# Altium footprint library IPC-SM-782 Section 11.2 SQFP_QFP-Square.PcbLib: 78 footprints (part 2 of 7)
Each footprint in its own frame and in the unit in brackets; x right, y up, seen from the top. Pads: shape width x height; smd on the part's side, far side on the other; paste and mask are expansions set on the pad; w line width, h text height; cw(c..) or ccw(c..) is an arc to the next point about the centre after c.
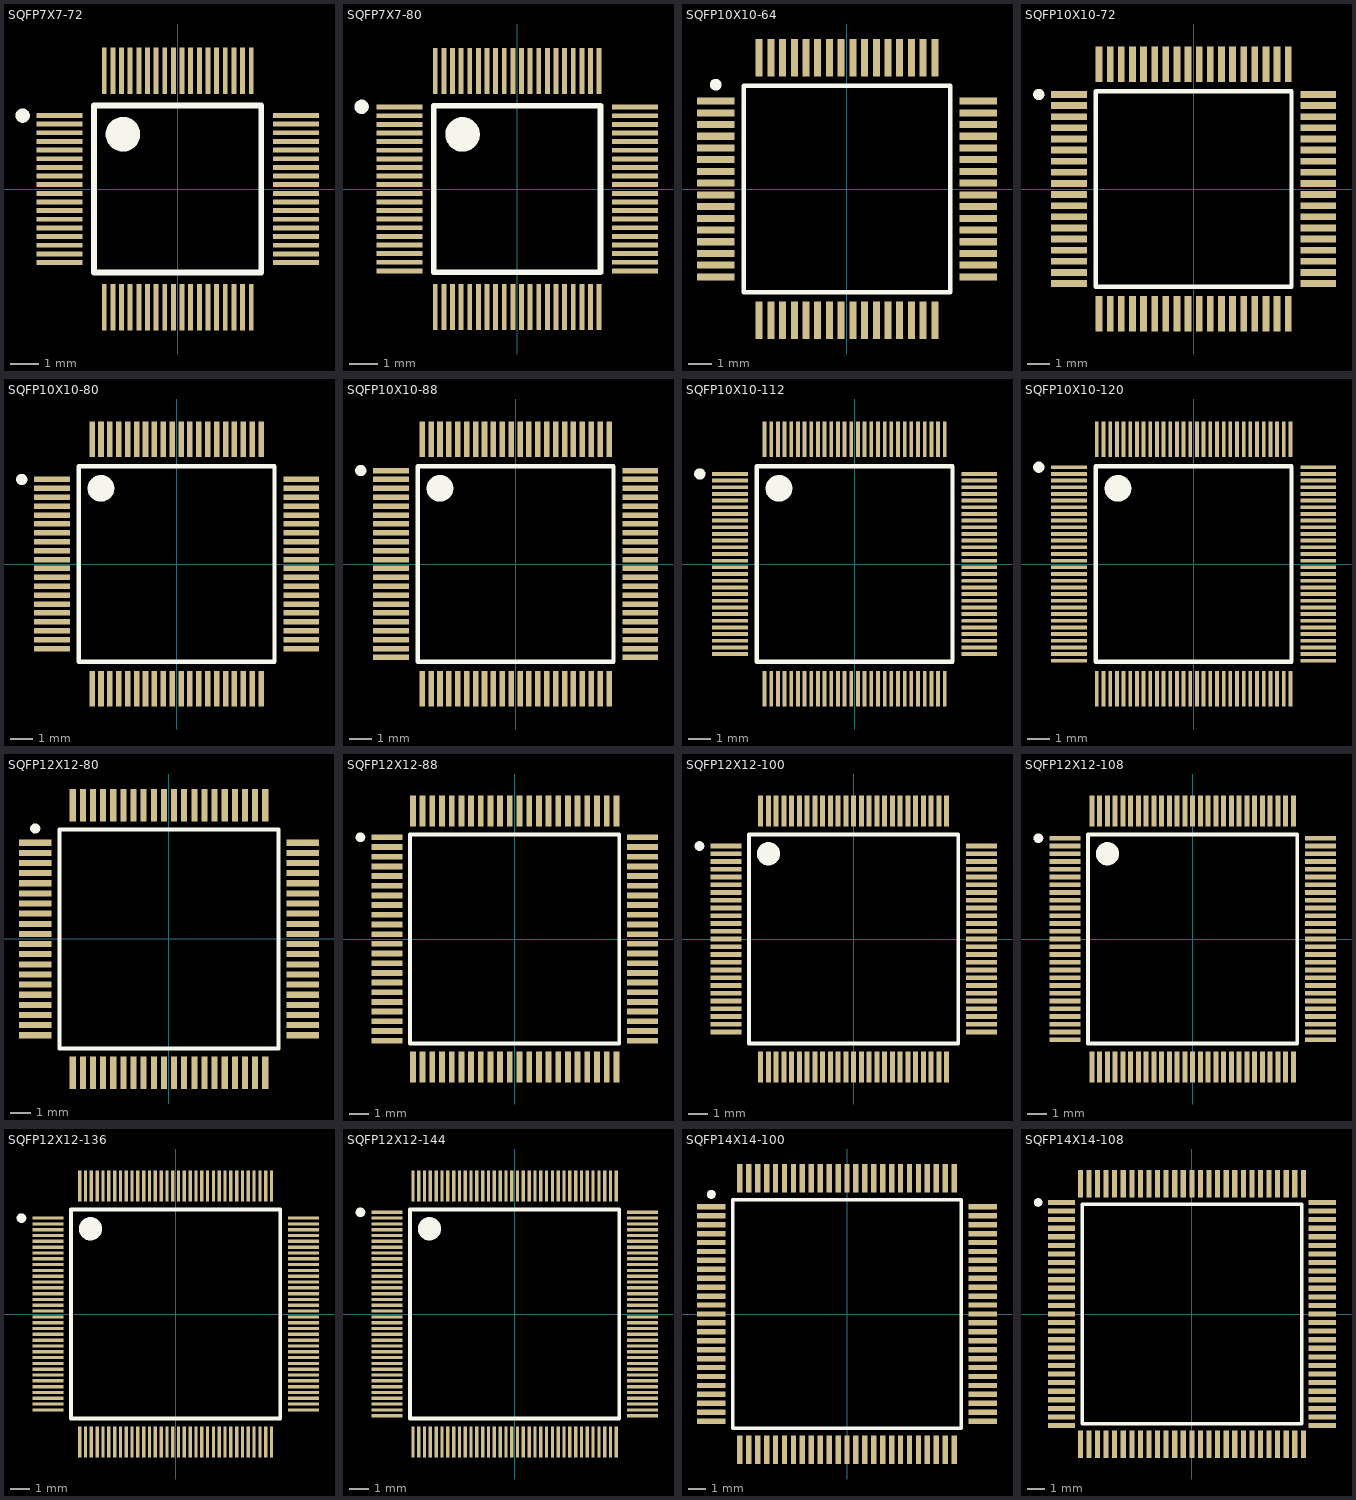
[diagram p1: the footprints below, top view; thin cyan lines are the x and y axes]

## SQFP7X7-72 [mm] "QFP; 72 Leads; Body 7 x 7 mm; Pitch 0.3 mm"
height 1.7
pads (72):
  rect 1.6x0.17 smd: 1(-4.1,2.55) 2(-4.1,2.25) 3(-4.1,1.95) 4(-4.1,1.65) 5(-4.1,1.35) 6(-4.1,1.05) 7(-4.1,0.75) 8(-4.1,0.45) 9(-4.1,0.15) 10(-4.1,-0.15) 11(-4.1,-0.45) 12(-4.1,-0.75) 13(-4.1,-1.05) 14(-4.1,-1.35) 15(-4.1,-1.65) 16(-4.1,-1.95) 17(-4.1,-2.25) 18(-4.1,-2.55) 37(4.1,-2.55) 38(4.1,-2.25) 39(4.1,-1.95) 40(4.1,-1.65) 41(4.1,-1.35) 42(4.1,-1.05) 43(4.1,-0.75) 44(4.1,-0.45) 45(4.1,-0.15) 46(4.1,0.15) 47(4.1,0.45) 48(4.1,0.75) 49(4.1,1.05) 50(4.1,1.35) 51(4.1,1.65) 52(4.1,1.95) 53(4.1,2.25) 54(4.1,2.55)
  rect 0.17x1.6 smd: 19(-2.55,-4.1) 20(-2.25,-4.1) 21(-1.95,-4.1) 22(-1.65,-4.1) 23(-1.35,-4.1) 24(-1.05,-4.1) 25(-0.75,-4.1) 26(-0.45,-4.1) 27(-0.15,-4.1) 28(0.15,-4.1) 29(0.45,-4.1) 30(0.75,-4.1) 31(1.05,-4.1) 32(1.35,-4.1) 33(1.65,-4.1) 34(1.95,-4.1) 35(2.25,-4.1) 36(2.55,-4.1) 55(2.55,4.1) 56(2.25,4.1) 57(1.95,4.1) 58(1.65,4.1) 59(1.35,4.1) 60(1.05,4.1) 61(0.75,4.1) 62(0.45,4.1) 63(0.15,4.1) 64(-0.15,4.1) 65(-0.45,4.1) 66(-0.75,4.1) 67(-1.05,4.1) 68(-1.35,4.1) 69(-1.65,4.1) 70(-1.95,4.1) 71(-2.25,4.1) 72(-2.55,4.1)
Top Overlay:
  circle w0.25: c-5.38,2.545 r0.125
  circle w0.6: c-1.9,1.9 r0.3
  lines w0.2: -2.9,-2.9 2.9,-2.9 2.9,2.9 -2.9,2.9 -2.9,-2.9

## SQFP7X7-80 [mm] "QFP; 80 Leads; Body 7 x 7 mm; Pitch 0.3 mm"
height 1.7
pads (80):
  rect 1.6x0.17 smd: 1(-4.1,2.85) 2(-4.1,2.55) 3(-4.1,2.25) 4(-4.1,1.95) 5(-4.1,1.65) 6(-4.1,1.35) 7(-4.1,1.05) 8(-4.1,0.75) 9(-4.1,0.45) 10(-4.1,0.15) 11(-4.1,-0.15) 12(-4.1,-0.45) 13(-4.1,-0.75) 14(-4.1,-1.05) 15(-4.1,-1.35) 16(-4.1,-1.65) 17(-4.1,-1.95) 18(-4.1,-2.25) 19(-4.1,-2.55) 20(-4.1,-2.85) 41(4.1,-2.85) 42(4.1,-2.55) 43(4.1,-2.25) 44(4.1,-1.95) 45(4.1,-1.65) 46(4.1,-1.35) 47(4.1,-1.05) 48(4.1,-0.75) 49(4.1,-0.45) 50(4.1,-0.15) 51(4.1,0.15) 52(4.1,0.45) 53(4.1,0.75) 54(4.1,1.05) 55(4.1,1.35) 56(4.1,1.65) 57(4.1,1.95) 58(4.1,2.25) 59(4.1,2.55) 60(4.1,2.85)
  rect 0.17x1.6 smd: 21(-2.85,-4.1) 22(-2.55,-4.1) 23(-2.25,-4.1) 24(-1.95,-4.1) 25(-1.65,-4.1) 26(-1.35,-4.1) 27(-1.05,-4.1) 28(-0.75,-4.1) 29(-0.45,-4.1) 30(-0.15,-4.1) 31(0.15,-4.1) 32(0.45,-4.1) 33(0.75,-4.1) 34(1.05,-4.1) 35(1.35,-4.1) 36(1.65,-4.1) 37(1.95,-4.1) 38(2.25,-4.1) 39(2.55,-4.1) 40(2.85,-4.1) 61(2.85,4.1) 62(2.55,4.1) 63(2.25,4.1) 64(1.95,4.1) 65(1.65,4.1) 66(1.35,4.1) 67(1.05,4.1) 68(0.75,4.1) 69(0.45,4.1) 70(0.15,4.1) 71(-0.15,4.1) 72(-0.45,4.1) 73(-0.75,4.1) 74(-1.05,4.1) 75(-1.35,4.1) 76(-1.65,4.1) 77(-1.95,4.1) 78(-2.25,4.1) 79(-2.55,4.1) 80(-2.85,4.1)
Top Overlay:
  circle w0.25: c-5.413,2.859 r0.125
  circle w0.6: c-1.9,1.9 r0.3
  lines w0.2: -2.9,-2.9 2.9,-2.9 2.9,2.9 -2.9,2.9 -2.9,-2.9

## SQFP10X10-64 [mm] "QFP; 64 Leads; Body 10 x 10 mm; Pitch 0.5 mm"
height 2.2
pads (64):
  rect 1.6x0.3 smd: 1(-5.6,3.75) 2(-5.6,3.25) 3(-5.6,2.75) 4(-5.6,2.25) 5(-5.6,1.75) 6(-5.6,1.25) 7(-5.6,0.75) 8(-5.6,0.25) 9(-5.6,-0.25) 10(-5.6,-0.75) 11(-5.6,-1.25) 12(-5.6,-1.75) 13(-5.6,-2.25) 14(-5.6,-2.75) 15(-5.6,-3.25) 16(-5.6,-3.75) 33(5.6,-3.75) 34(5.6,-3.25) 35(5.6,-2.75) 36(5.6,-2.25) 37(5.6,-1.75) 38(5.6,-1.25) 39(5.6,-0.75) 40(5.6,-0.25) 41(5.6,0.25) 42(5.6,0.75) 43(5.6,1.25) 44(5.6,1.75) 45(5.6,2.25) 46(5.6,2.75) 47(5.6,3.25) 48(5.6,3.75)
  rect 0.3x1.6 smd: 17(-3.75,-5.6) 18(-3.25,-5.6) 19(-2.75,-5.6) 20(-2.25,-5.6) 21(-1.75,-5.6) 22(-1.25,-5.6) 23(-0.75,-5.6) 24(-0.25,-5.6) 25(0.25,-5.6) 26(0.75,-5.6) 27(1.25,-5.6) 28(1.75,-5.6) 29(2.25,-5.6) 30(2.75,-5.6) 31(3.25,-5.6) 32(3.75,-5.6) 49(3.75,5.6) 50(3.25,5.6) 51(2.75,5.6) 52(2.25,5.6) 53(1.75,5.6) 54(1.25,5.6) 55(0.75,5.6) 56(0.25,5.6) 57(-0.25,5.6) 58(-0.75,5.6) 59(-1.25,5.6) 60(-1.75,5.6) 61(-2.25,5.6) 62(-2.75,5.6) 63(-3.25,5.6) 64(-3.75,5.6)
Top Overlay:
  circle w0.25: c-5.6,4.45 r0.125
  lines w0.2: -4.4,-4.4 4.4,-4.4 4.4,4.4 -4.4,4.4 -4.4,-4.4

## SQFP10X10-72 [mm] "QFP; 72 Leads; Body 10 x 10 mm; Pitch 0.5 mm"
height 2.2
pads (72):
  rect 1.6x0.3 smd: 1(-5.6,4.25) 2(-5.6,3.75) 3(-5.6,3.25) 4(-5.6,2.75) 5(-5.6,2.25) 6(-5.6,1.75) 7(-5.6,1.25) 8(-5.6,0.75) 9(-5.6,0.25) 10(-5.6,-0.25) 11(-5.6,-0.75) 12(-5.6,-1.25) 13(-5.6,-1.75) 14(-5.6,-2.25) 15(-5.6,-2.75) 16(-5.6,-3.25) 17(-5.6,-3.75) 18(-5.6,-4.25) 37(5.6,-4.25) 38(5.6,-3.75) 39(5.6,-3.25) 40(5.6,-2.75) 41(5.6,-2.25) 42(5.6,-1.75) 43(5.6,-1.25) 44(5.6,-0.75) 45(5.6,-0.25) 46(5.6,0.25) 47(5.6,0.75) 48(5.6,1.25) 49(5.6,1.75) 50(5.6,2.25) 51(5.6,2.75) 52(5.6,3.25) 53(5.6,3.75) 54(5.6,4.25)
  rect 0.3x1.6 smd: 19(-4.25,-5.6) 20(-3.75,-5.6) 21(-3.25,-5.6) 22(-2.75,-5.6) 23(-2.25,-5.6) 24(-1.75,-5.6) 25(-1.25,-5.6) 26(-0.75,-5.6) 27(-0.25,-5.6) 28(0.25,-5.6) 29(0.75,-5.6) 30(1.25,-5.6) 31(1.75,-5.6) 32(2.25,-5.6) 33(2.75,-5.6) 34(3.25,-5.6) 35(3.75,-5.6) 36(4.25,-5.6) 55(4.25,5.6) 56(3.75,5.6) 57(3.25,5.6) 58(2.75,5.6) 59(2.25,5.6) 60(1.75,5.6) 61(1.25,5.6) 62(0.75,5.6) 63(0.25,5.6) 64(-0.25,5.6) 65(-0.75,5.6) 66(-1.25,5.6) 67(-1.75,5.6) 68(-2.25,5.6) 69(-2.75,5.6) 70(-3.25,5.6) 71(-3.75,5.6) 72(-4.25,5.6)
Top Overlay:
  circle w0.25: c-6.96,4.25 r0.125
  lines w0.2: -4.4,-4.4 4.4,-4.4 4.4,4.4 -4.4,4.4 -4.4,-4.4

## SQFP10X10-80 [mm] "QFP; 80 Leads; Body 10 x 10 mm; Pitch 0.4 mm"
height 2.2
pads (80):
  rect 1.6x0.25 smd: 1(-5.6,3.8) 2(-5.6,3.4) 3(-5.6,3) 4(-5.6,2.6) 5(-5.6,2.2) 6(-5.6,1.8) 7(-5.6,1.4) 8(-5.6,1) 9(-5.6,0.6) 10(-5.6,0.2) 11(-5.6,-0.2) 12(-5.6,-0.6) 13(-5.6,-1) 14(-5.6,-1.4) 15(-5.6,-1.8) 16(-5.6,-2.2) 17(-5.6,-2.6) 18(-5.6,-3) 19(-5.6,-3.4) 20(-5.6,-3.8) 41(5.6,-3.8) 42(5.6,-3.4) 43(5.6,-3) 44(5.6,-2.6) 45(5.6,-2.2) 46(5.6,-1.8) 47(5.6,-1.4) 48(5.6,-1) 49(5.6,-0.6) 50(5.6,-0.2) 51(5.6,0.2) 52(5.6,0.6) 53(5.6,1) 54(5.6,1.4) 55(5.6,1.8) 56(5.6,2.2) 57(5.6,2.6) 58(5.6,3) 59(5.6,3.4) 60(5.6,3.8)
  rect 0.25x1.6 smd: 21(-3.8,-5.6) 22(-3.4,-5.6) 23(-3,-5.6) 24(-2.6,-5.6) 25(-2.2,-5.6) 26(-1.8,-5.6) 27(-1.4,-5.6) 28(-1,-5.6) 29(-0.6,-5.6) 30(-0.2,-5.6) 31(0.2,-5.6) 32(0.6,-5.6) 33(1,-5.6) 34(1.4,-5.6) 35(1.8,-5.6) 36(2.2,-5.6) 37(2.6,-5.6) 38(3,-5.6) 39(3.4,-5.6) 40(3.8,-5.6) 61(3.8,5.6) 62(3.4,5.6) 63(3,5.6) 64(2.6,5.6) 65(2.2,5.6) 66(1.8,5.6) 67(1.4,5.6) 68(1,5.6) 69(0.6,5.6) 70(0.2,5.6) 71(-0.2,5.6) 72(-0.6,5.6) 73(-1,5.6) 74(-1.4,5.6) 75(-1.8,5.6) 76(-2.2,5.6) 77(-2.6,5.6) 78(-3,5.6) 79(-3.4,5.6) 80(-3.8,5.6)
Top Overlay:
  circle w0.6: c-3.4,3.4 r0.3
  circle w0.25: c-6.96,3.8 r0.125
  lines w0.2: -4.4,-4.4 4.4,-4.4 4.4,4.4 -4.4,4.4 -4.4,-4.4

## SQFP10X10-88 [mm] "QFP; 88 Leads; Body 10 x 10 mm; Pitch 0.4 mm"
height 2.2
pads (88):
  rect 1.6x0.25 smd: 1(-5.6,4.2) 2(-5.6,3.8) 3(-5.6,3.4) 4(-5.6,3) 5(-5.6,2.6) 6(-5.6,2.2) 7(-5.6,1.8) 8(-5.6,1.4) 9(-5.6,1) 10(-5.6,0.6) 11(-5.6,0.2) 12(-5.6,-0.2) 13(-5.6,-0.6) 14(-5.6,-1) 15(-5.6,-1.4) 16(-5.6,-1.8) 17(-5.6,-2.2) 18(-5.6,-2.6) 19(-5.6,-3) 20(-5.6,-3.4) 21(-5.6,-3.8) 22(-5.6,-4.2) 45(5.6,-4.2) 46(5.6,-3.8) 47(5.6,-3.4) 48(5.6,-3) 49(5.6,-2.6) 50(5.6,-2.2) 51(5.6,-1.8) 52(5.6,-1.4) 53(5.6,-1) 54(5.6,-0.6) 55(5.6,-0.2) 56(5.6,0.2) 57(5.6,0.6) 58(5.6,1) 59(5.6,1.4) 60(5.6,1.8) 61(5.6,2.2) 62(5.6,2.6) 63(5.6,3) 64(5.6,3.4) 65(5.6,3.8) 66(5.6,4.2)
  rect 0.25x1.6 smd: 23(-4.2,-5.6) 24(-3.8,-5.6) 25(-3.4,-5.6) 26(-3,-5.6) 27(-2.6,-5.6) 28(-2.2,-5.6) 29(-1.8,-5.6) 30(-1.4,-5.6) 31(-1,-5.6) 32(-0.6,-5.6) 33(-0.2,-5.6) 34(0.2,-5.6) 35(0.6,-5.6) 36(1,-5.6) 37(1.4,-5.6) 38(1.8,-5.6) 39(2.2,-5.6) 40(2.6,-5.6) 41(3,-5.6) 42(3.4,-5.6) 43(3.8,-5.6) 44(4.2,-5.6) 67(4.2,5.6) 68(3.8,5.6) 69(3.4,5.6) 70(3,5.6) 71(2.6,5.6) 72(2.2,5.6) 73(1.8,5.6) 74(1.4,5.6) 75(1,5.6) 76(0.6,5.6) 77(0.2,5.6) 78(-0.2,5.6) 79(-0.6,5.6) 80(-1,5.6) 81(-1.4,5.6) 82(-1.8,5.6) 83(-2.2,5.6) 84(-2.6,5.6) 85(-3,5.6) 86(-3.4,5.6) 87(-3.8,5.6) 88(-4.2,5.6)
Top Overlay:
  circle w0.6: c-3.4,3.4 r0.3
  circle w0.25: c-6.96,4.2 r0.125
  lines w0.2: -4.4,-4.4 4.4,-4.4 4.4,4.4 -4.4,4.4 -4.4,-4.4

## SQFP10X10-112 [mm] "QFP; 112 Leads; Body 10 x 10 mm; Pitch 0.3 mm"
height 2.2
pads (112):
  rect 1.6x0.17 smd: 1(-5.6,4.05) 2(-5.6,3.75) 3(-5.6,3.45) 4(-5.6,3.15) 5(-5.6,2.85) 6(-5.6,2.55) 7(-5.6,2.25) 8(-5.6,1.95) 9(-5.6,1.65) 10(-5.6,1.35) 11(-5.6,1.05) 12(-5.6,0.75) 13(-5.6,0.45) 14(-5.6,0.15) 15(-5.6,-0.15) 16(-5.6,-0.45) 17(-5.6,-0.75) 18(-5.6,-1.05) 19(-5.6,-1.35) 20(-5.6,-1.65) 21(-5.6,-1.95) 22(-5.6,-2.25) 23(-5.6,-2.55) 24(-5.6,-2.85) 25(-5.6,-3.15) 26(-5.6,-3.45) 27(-5.6,-3.75) 28(-5.6,-4.05) 57(5.6,-4.05) 58(5.6,-3.75) 59(5.6,-3.45) 60(5.6,-3.15) 61(5.6,-2.85) 62(5.6,-2.55) 63(5.6,-2.25) 64(5.6,-1.95) 65(5.6,-1.65) 66(5.6,-1.35) 67(5.6,-1.05) 68(5.6,-0.75) 69(5.6,-0.45) 70(5.6,-0.15) 71(5.6,0.15) 72(5.6,0.45) 73(5.6,0.75) 74(5.6,1.05) 75(5.6,1.35) 76(5.6,1.65) 77(5.6,1.95) 78(5.6,2.25) 79(5.6,2.55) 80(5.6,2.85) 81(5.6,3.15) 82(5.6,3.45) 83(5.6,3.75) 84(5.6,4.05)
  rect 0.17x1.6 smd: 29(-4.05,-5.6) 30(-3.75,-5.6) 31(-3.45,-5.6) 32(-3.15,-5.6) 33(-2.85,-5.6) 34(-2.55,-5.6) 35(-2.25,-5.6) 36(-1.95,-5.6) 37(-1.65,-5.6) 38(-1.35,-5.6) 39(-1.05,-5.6) 40(-0.75,-5.6) 41(-0.45,-5.6) 42(-0.15,-5.6) 43(0.15,-5.6) 44(0.45,-5.6) 45(0.75,-5.6) 46(1.05,-5.6) 47(1.35,-5.6) 48(1.65,-5.6) 49(1.95,-5.6) 50(2.25,-5.6) 51(2.55,-5.6) 52(2.85,-5.6) 53(3.15,-5.6) 54(3.45,-5.6) 55(3.75,-5.6) 56(4.05,-5.6) 85(4.05,5.6) 86(3.75,5.6) 87(3.45,5.6) 88(3.15,5.6) 89(2.85,5.6) 90(2.55,5.6) 91(2.25,5.6) 92(1.95,5.6) 93(1.65,5.6) 94(1.35,5.6) 95(1.05,5.6) 96(0.75,5.6) 97(0.45,5.6) 98(0.15,5.6) 99(-0.15,5.6) 100(-0.45,5.6) 101(-0.75,5.6) 102(-1.05,5.6) 103(-1.35,5.6) 104(-1.65,5.6) 105(-1.95,5.6) 106(-2.25,5.6) 107(-2.55,5.6) 108(-2.85,5.6) 109(-3.15,5.6) 110(-3.45,5.6) 111(-3.75,5.6) 112(-4.05,5.6)
Top Overlay:
  circle w0.25: c-6.96,4.05 r0.125
  circle w0.6: c-3.4,3.4 r0.3
  lines w0.2: -4.4,-4.4 4.4,-4.4 4.4,4.4 -4.4,4.4 -4.4,-4.4

## SQFP10X10-120 [mm] "QFP; 120 Leads; Body 10 x 10 mm; Pitch 0.3 mm"
height 2.2
pads (120):
  rect 1.6x0.17 smd: 1(-5.6,4.35) 2(-5.6,4.05) 3(-5.6,3.75) 4(-5.6,3.45) 5(-5.6,3.15) 6(-5.6,2.85) 7(-5.6,2.55) 8(-5.6,2.25) 9(-5.6,1.95) 10(-5.6,1.65) 11(-5.6,1.35) 12(-5.6,1.05) 13(-5.6,0.75) 14(-5.6,0.45) 15(-5.6,0.15) 16(-5.6,-0.15) 17(-5.6,-0.45) 18(-5.6,-0.75) 19(-5.6,-1.05) 20(-5.6,-1.35) 21(-5.6,-1.65) 22(-5.6,-1.95) 23(-5.6,-2.25) 24(-5.6,-2.55) 25(-5.6,-2.85) 26(-5.6,-3.15) 27(-5.6,-3.45) 28(-5.6,-3.75) 29(-5.6,-4.05) 30(-5.6,-4.35) 61(5.6,-4.35) 62(5.6,-4.05) 63(5.6,-3.75) 64(5.6,-3.45) 65(5.6,-3.15) 66(5.6,-2.85) 67(5.6,-2.55) 68(5.6,-2.25) 69(5.6,-1.95) 70(5.6,-1.65) 71(5.6,-1.35) 72(5.6,-1.05) 73(5.6,-0.75) 74(5.6,-0.45) 75(5.6,-0.15) 76(5.6,0.15) 77(5.6,0.45) 78(5.6,0.75) 79(5.6,1.05) 80(5.6,1.35) 81(5.6,1.65) 82(5.6,1.95) 83(5.6,2.25) 84(5.6,2.55) 85(5.6,2.85) 86(5.6,3.15) 87(5.6,3.45) 88(5.6,3.75) 89(5.6,4.05) 90(5.6,4.35)
  rect 0.17x1.6 smd: 31(-4.35,-5.6) 32(-4.05,-5.6) 33(-3.75,-5.6) 34(-3.45,-5.6) 35(-3.15,-5.6) 36(-2.85,-5.6) 37(-2.55,-5.6) 38(-2.25,-5.6) 39(-1.95,-5.6) 40(-1.65,-5.6) 41(-1.35,-5.6) 42(-1.05,-5.6) 43(-0.75,-5.6) 44(-0.45,-5.6) 45(-0.15,-5.6) 46(0.15,-5.6) 47(0.45,-5.6) 48(0.75,-5.6) 49(1.05,-5.6) 50(1.35,-5.6) 51(1.65,-5.6) 52(1.95,-5.6) 53(2.25,-5.6) 54(2.55,-5.6) 55(2.85,-5.6) 56(3.15,-5.6) 57(3.45,-5.6) 58(3.75,-5.6) 59(4.05,-5.6) 60(4.35,-5.6) 91(4.35,5.6) 92(4.05,5.6) 93(3.75,5.6) 94(3.45,5.6) 95(3.15,5.6) 96(2.85,5.6) 97(2.55,5.6) 98(2.25,5.6) 99(1.95,5.6) 100(1.65,5.6) 101(1.35,5.6) 102(1.05,5.6) 103(0.75,5.6) 104(0.45,5.6) 105(0.15,5.6) 106(-0.15,5.6) 107(-0.45,5.6) 108(-0.75,5.6) 109(-1.05,5.6) 110(-1.35,5.6) 111(-1.65,5.6) 112(-1.95,5.6) 113(-2.25,5.6) 114(-2.55,5.6) 115(-2.85,5.6) 116(-3.15,5.6) 117(-3.45,5.6) 118(-3.75,5.6) 119(-4.05,5.6) 120(-4.35,5.6)
Top Overlay:
  circle w0.25: c-6.96,4.35 r0.125
  circle w0.6: c-3.4,3.4 r0.3
  lines w0.2: -4.4,-4.4 4.4,-4.4 4.4,4.4 -4.4,4.4 -4.4,-4.4

## SQFP12X12-80 [mm] "QFP; 80 Leads; Body 12 x 12 mm; Pitch 0.5 mm"
height 2.2
pads (80):
  rect 1.6x0.3 smd: 1(-6.6,4.75) 2(-6.6,4.25) 3(-6.6,3.75) 4(-6.6,3.25) 5(-6.6,2.75) 6(-6.6,2.25) 7(-6.6,1.75) 8(-6.6,1.25) 9(-6.6,0.75) 10(-6.6,0.25) 11(-6.6,-0.25) 12(-6.6,-0.75) 13(-6.6,-1.25) 14(-6.6,-1.75) 15(-6.6,-2.25) 16(-6.6,-2.75) 17(-6.6,-3.25) 18(-6.6,-3.75) 19(-6.6,-4.25) 20(-6.6,-4.75) 41(6.6,-4.75) 42(6.6,-4.25) 43(6.6,-3.75) 44(6.6,-3.25) 45(6.6,-2.75) 46(6.6,-2.25) 47(6.6,-1.75) 48(6.6,-1.25) 49(6.6,-0.75) 50(6.6,-0.25) 51(6.6,0.25) 52(6.6,0.75) 53(6.6,1.25) 54(6.6,1.75) 55(6.6,2.25) 56(6.6,2.75) 57(6.6,3.25) 58(6.6,3.75) 59(6.6,4.25) 60(6.6,4.75)
  rect 0.3x1.6 smd: 21(-4.75,-6.6) 22(-4.25,-6.6) 23(-3.75,-6.6) 24(-3.25,-6.6) 25(-2.75,-6.6) 26(-2.25,-6.6) 27(-1.75,-6.6) 28(-1.25,-6.6) 29(-0.75,-6.6) 30(-0.25,-6.6) 31(0.25,-6.6) 32(0.75,-6.6) 33(1.25,-6.6) 34(1.75,-6.6) 35(2.25,-6.6) 36(2.75,-6.6) 37(3.25,-6.6) 38(3.75,-6.6) 39(4.25,-6.6) 40(4.75,-6.6) 61(4.75,6.6) 62(4.25,6.6) 63(3.75,6.6) 64(3.25,6.6) 65(2.75,6.6) 66(2.25,6.6) 67(1.75,6.6) 68(1.25,6.6) 69(0.75,6.6) 70(0.25,6.6) 71(-0.25,6.6) 72(-0.75,6.6) 73(-1.25,6.6) 74(-1.75,6.6) 75(-2.25,6.6) 76(-2.75,6.6) 77(-3.25,6.6) 78(-3.75,6.6) 79(-4.25,6.6) 80(-4.75,6.6)
Top Overlay:
  circle w0.25: c-6.6,5.45 r0.125
  lines w0.2: -5.4,-5.4 5.4,-5.4 5.4,5.4 -5.4,5.4 -5.4,-5.4

## SQFP12X12-88 [mm] "QFP; 88 Leads; Body 12 x 12 mm; Pitch 0.5 mm"
height 2.2
pads (88):
  rect 1.6x0.3 smd: 1(-6.6,5.25) 2(-6.6,4.75) 3(-6.6,4.25) 4(-6.6,3.75) 5(-6.6,3.25) 6(-6.6,2.75) 7(-6.6,2.25) 8(-6.6,1.75) 9(-6.6,1.25) 10(-6.6,0.75) 11(-6.6,0.25) 12(-6.6,-0.25) 13(-6.6,-0.75) 14(-6.6,-1.25) 15(-6.6,-1.75) 16(-6.6,-2.25) 17(-6.6,-2.75) 18(-6.6,-3.25) 19(-6.6,-3.75) 20(-6.6,-4.25) 21(-6.6,-4.75) 22(-6.6,-5.25) 45(6.6,-5.25) 46(6.6,-4.75) 47(6.6,-4.25) 48(6.6,-3.75) 49(6.6,-3.25) 50(6.6,-2.75) 51(6.6,-2.25) 52(6.6,-1.75) 53(6.6,-1.25) 54(6.6,-0.75) 55(6.6,-0.25) 56(6.6,0.25) 57(6.6,0.75) 58(6.6,1.25) 59(6.6,1.75) 60(6.6,2.25) 61(6.6,2.75) 62(6.6,3.25) 63(6.6,3.75) 64(6.6,4.25) 65(6.6,4.75) 66(6.6,5.25)
  rect 0.3x1.6 smd: 23(-5.25,-6.6) 24(-4.75,-6.6) 25(-4.25,-6.6) 26(-3.75,-6.6) 27(-3.25,-6.6) 28(-2.75,-6.6) 29(-2.25,-6.6) 30(-1.75,-6.6) 31(-1.25,-6.6) 32(-0.75,-6.6) 33(-0.25,-6.6) 34(0.25,-6.6) 35(0.75,-6.6) 36(1.25,-6.6) 37(1.75,-6.6) 38(2.25,-6.6) 39(2.75,-6.6) 40(3.25,-6.6) 41(3.75,-6.6) 42(4.25,-6.6) 43(4.75,-6.6) 44(5.25,-6.6) 67(5.25,6.6) 68(4.75,6.6) 69(4.25,6.6) 70(3.75,6.6) 71(3.25,6.6) 72(2.75,6.6) 73(2.25,6.6) 74(1.75,6.6) 75(1.25,6.6) 76(0.75,6.6) 77(0.25,6.6) 78(-0.25,6.6) 79(-0.75,6.6) 80(-1.25,6.6) 81(-1.75,6.6) 82(-2.25,6.6) 83(-2.75,6.6) 84(-3.25,6.6) 85(-3.75,6.6) 86(-4.25,6.6) 87(-4.75,6.6) 88(-5.25,6.6)
Top Overlay:
  circle w0.25: c-7.96,5.25 r0.125
  lines w0.2: -5.4,-5.4 -5.4,5.4 5.4,5.4 5.4,-5.4 -5.4,-5.4

## SQFP12X12-100 [mm] "QFP; 100 Leads; Body 12 x 12 mm; Pitch 0.4 mm"
height 2.2
pads (100):
  rect 1.6x0.25 smd: 1(-6.6,4.8) 2(-6.6,4.4) 3(-6.6,4) 4(-6.6,3.6) 5(-6.6,3.2) 6(-6.6,2.8) 7(-6.6,2.4) 8(-6.6,2) 9(-6.6,1.6) 10(-6.6,1.2) 11(-6.6,0.8) 12(-6.6,0.4) 13(-6.6,0) 14(-6.6,-0.4) 15(-6.6,-0.8) 16(-6.6,-1.2) 17(-6.6,-1.6) 18(-6.6,-2) 19(-6.6,-2.4) 20(-6.6,-2.8) 21(-6.6,-3.2) 22(-6.6,-3.6) 23(-6.6,-4) 24(-6.6,-4.4) 25(-6.6,-4.8) 51(6.6,-4.8) 52(6.6,-4.4) 53(6.6,-4) 54(6.6,-3.6) 55(6.6,-3.2) 56(6.6,-2.8) 57(6.6,-2.4) 58(6.6,-2) 59(6.6,-1.6) 60(6.6,-1.2) 61(6.6,-0.8) 62(6.6,-0.4) 63(6.6,0) 64(6.6,0.4) 65(6.6,0.8) 66(6.6,1.2) 67(6.6,1.6) 68(6.6,2) 69(6.6,2.4) 70(6.6,2.8) 71(6.6,3.2) 72(6.6,3.6) 73(6.6,4) 74(6.6,4.4) 75(6.6,4.8)
  rect 0.25x1.6 smd: 26(-4.8,-6.6) 27(-4.4,-6.6) 28(-4,-6.6) 29(-3.6,-6.6) 30(-3.2,-6.6) 31(-2.8,-6.6) 32(-2.4,-6.6) 33(-2,-6.6) 34(-1.6,-6.6) 35(-1.2,-6.6) 36(-0.8,-6.6) 37(-0.4,-6.6) 38(0,-6.6) 39(0.4,-6.6) 40(0.8,-6.6) 41(1.2,-6.6) 42(1.6,-6.6) 43(2,-6.6) 44(2.4,-6.6) 45(2.8,-6.6) 46(3.2,-6.6) 47(3.6,-6.6) 48(4,-6.6) 49(4.4,-6.6) 50(4.8,-6.6) 76(4.8,6.6) 77(4.4,6.6) 78(4,6.6) 79(3.6,6.6) 80(3.2,6.6) 81(2.8,6.6) 82(2.4,6.6) 83(2,6.6) 84(1.6,6.6) 85(1.2,6.6) 86(0.8,6.6) 87(0.4,6.6) 88(0,6.6) 89(-0.4,6.6) 90(-0.8,6.6) 91(-1.2,6.6) 92(-1.6,6.6) 93(-2,6.6) 94(-2.4,6.6) 95(-2.8,6.6) 96(-3.2,6.6) 97(-3.6,6.6) 98(-4,6.6) 99(-4.4,6.6) 100(-4.8,6.6)
Top Overlay:
  circle w0.6: c-4.4,4.4 r0.3
  circle w0.25: c-7.96,4.8 r0.125
  lines w0.2: -5.4,-5.4 5.4,-5.4 5.4,5.4 -5.4,5.4 -5.4,-5.4

## SQFP12X12-108 [mm] "QFP; 108 Leads; Body 12 x 12 mm; Pitch 0.4 mm"
height 2.2
pads (108):
  rect 1.6x0.25 smd: 1(-6.6,5.2) 2(-6.6,4.8) 3(-6.6,4.4) 4(-6.6,4) 5(-6.6,3.6) 6(-6.6,3.2) 7(-6.6,2.8) 8(-6.6,2.4) 9(-6.6,2) 10(-6.6,1.6) 11(-6.6,1.2) 12(-6.6,0.8) 13(-6.6,0.4) 14(-6.6,0) 15(-6.6,-0.4) 16(-6.6,-0.8) 17(-6.6,-1.2) 18(-6.6,-1.6) 19(-6.6,-2) 20(-6.6,-2.4) 21(-6.6,-2.8) 22(-6.6,-3.2) 23(-6.6,-3.6) 24(-6.6,-4) 25(-6.6,-4.4) 26(-6.6,-4.8) 27(-6.6,-5.2) 55(6.6,-5.2) 56(6.6,-4.8) 57(6.6,-4.4) 58(6.6,-4) 59(6.6,-3.6) 60(6.6,-3.2) 61(6.6,-2.8) 62(6.6,-2.4) 63(6.6,-2) 64(6.6,-1.6) 65(6.6,-1.2) 66(6.6,-0.8) 67(6.6,-0.4) 68(6.6,0) 69(6.6,0.4) 70(6.6,0.8) 71(6.6,1.2) 72(6.6,1.6) 73(6.6,2) 74(6.6,2.4) 75(6.6,2.8) 76(6.6,3.2) 77(6.6,3.6) 78(6.6,4) 79(6.6,4.4) 80(6.6,4.8) 81(6.6,5.2)
  rect 0.25x1.6 smd: 28(-5.2,-6.6) 29(-4.8,-6.6) 30(-4.4,-6.6) 31(-4,-6.6) 32(-3.6,-6.6) 33(-3.2,-6.6) 34(-2.8,-6.6) 35(-2.4,-6.6) 36(-2,-6.6) 37(-1.6,-6.6) 38(-1.2,-6.6) 39(-0.8,-6.6) 40(-0.4,-6.6) 41(0,-6.6) 42(0.4,-6.6) 43(0.8,-6.6) 44(1.2,-6.6) 45(1.6,-6.6) 46(2,-6.6) 47(2.4,-6.6) 48(2.8,-6.6) 49(3.2,-6.6) 50(3.6,-6.6) 51(4,-6.6) 52(4.4,-6.6) 53(4.8,-6.6) 54(5.2,-6.6) 82(5.2,6.6) 83(4.8,6.6) 84(4.4,6.6) 85(4,6.6) 86(3.6,6.6) 87(3.2,6.6) 88(2.8,6.6) 89(2.4,6.6) 90(2,6.6) 91(1.6,6.6) 92(1.2,6.6) 93(0.8,6.6) 94(0.4,6.6) 95(0,6.6) 96(-0.4,6.6) 97(-0.8,6.6) 98(-1.2,6.6) 99(-1.6,6.6) 100(-2,6.6) 101(-2.4,6.6) 102(-2.8,6.6) 103(-3.2,6.6) 104(-3.6,6.6) 105(-4,6.6) 106(-4.4,6.6) 107(-4.8,6.6) 108(-5.2,6.6)
Top Overlay:
  circle w0.6: c-4.4,4.4 r0.3
  circle w0.25: c-7.96,5.2 r0.125
  lines w0.2: -5.4,-5.4 5.4,-5.4 5.4,5.4 -5.4,5.4 -5.4,-5.4

## SQFP12X12-136 [mm] "QFP; 136 Leads; Body 12 x 12 mm; Pitch 0.3 mm"
height 2.2
pads (136):
  rect 1.6x0.17 smd: 1(-6.6,4.95) 2(-6.6,4.65) 3(-6.6,4.35) 4(-6.6,4.05) 5(-6.6,3.75) 6(-6.6,3.45) 7(-6.6,3.15) 8(-6.6,2.85) 9(-6.6,2.55) 10(-6.6,2.25) 11(-6.6,1.95) 12(-6.6,1.65) 13(-6.6,1.35) 14(-6.6,1.05) 15(-6.6,0.75) 16(-6.6,0.45) 17(-6.6,0.15) 18(-6.6,-0.15) 19(-6.6,-0.45) 20(-6.6,-0.75) 21(-6.6,-1.05) 22(-6.6,-1.35) 23(-6.6,-1.65) 24(-6.6,-1.95) 25(-6.6,-2.25) 26(-6.6,-2.55) 27(-6.6,-2.85) 28(-6.6,-3.15) 29(-6.6,-3.45) 30(-6.6,-3.75) 31(-6.6,-4.05) 32(-6.6,-4.35) 33(-6.6,-4.65) 34(-6.6,-4.95) 69(6.6,-4.95) 70(6.6,-4.65) 71(6.6,-4.35) 72(6.6,-4.05) 73(6.6,-3.75) 74(6.6,-3.45) 75(6.6,-3.15) 76(6.6,-2.85) 77(6.6,-2.55) 78(6.6,-2.25) 79(6.6,-1.95) 80(6.6,-1.65) 81(6.6,-1.35) 82(6.6,-1.05) 83(6.6,-0.75) 84(6.6,-0.45) 85(6.6,-0.15) 86(6.6,0.15) 87(6.6,0.45) 88(6.6,0.75) 89(6.6,1.05) 90(6.6,1.35) 91(6.6,1.65) 92(6.6,1.95) 93(6.6,2.25) 94(6.6,2.55) 95(6.6,2.85) 96(6.6,3.15) 97(6.6,3.45) 98(6.6,3.75) 99(6.6,4.05) 100(6.6,4.35) 101(6.6,4.65) 102(6.6,4.95)
  rect 0.17x1.6 smd: 35(-4.95,-6.6) 36(-4.65,-6.6) 37(-4.35,-6.6) 38(-4.05,-6.6) 39(-3.75,-6.6) 40(-3.45,-6.6) 41(-3.15,-6.6) 42(-2.85,-6.6) 43(-2.55,-6.6) 44(-2.25,-6.6) 45(-1.95,-6.6) 46(-1.65,-6.6) 47(-1.35,-6.6) 48(-1.05,-6.6) 49(-0.75,-6.6) 50(-0.45,-6.6) 51(-0.15,-6.6) 52(0.15,-6.6) 53(0.45,-6.6) 54(0.75,-6.6) 55(1.05,-6.6) 56(1.35,-6.6) 57(1.65,-6.6) 58(1.95,-6.6) 59(2.25,-6.6) 60(2.55,-6.6) 61(2.85,-6.6) 62(3.15,-6.6) 63(3.45,-6.6) 64(3.75,-6.6) 65(4.05,-6.6) 66(4.35,-6.6) 67(4.65,-6.6) 68(4.95,-6.6) 103(4.95,6.6) 104(4.65,6.6) 105(4.35,6.6) 106(4.05,6.6) 107(3.75,6.6) 108(3.45,6.6) 109(3.15,6.6) 110(2.85,6.6) 111(2.55,6.6) 112(2.25,6.6) 113(1.95,6.6) 114(1.65,6.6) 115(1.35,6.6) 116(1.05,6.6) 117(0.75,6.6) 118(0.45,6.6) 119(0.15,6.6) 120(-0.15,6.6) 121(-0.45,6.6) 122(-0.75,6.6) 123(-1.05,6.6) 124(-1.35,6.6) 125(-1.65,6.6) 126(-1.95,6.6) 127(-2.25,6.6) 128(-2.55,6.6) 129(-2.85,6.6) 130(-3.15,6.6) 131(-3.45,6.6) 132(-3.75,6.6) 133(-4.05,6.6) 134(-4.35,6.6) 135(-4.65,6.6) 136(-4.95,6.6)
Top Overlay:
  circle w0.25: c-7.96,4.95 r0.125
  circle w0.6: c-4.4,4.4 r0.3
  lines w0.2: -5.4,-5.4 5.4,-5.4 5.4,5.4 -5.4,5.4 -5.4,-5.4

## SQFP12X12-144 [mm] "QFP; 144 Leads; Body 12 x 12 mm; Pitch 0.3 mm"
height 2.2
pads (144):
  rect 1.6x0.17 smd: 1(-6.6,5.25) 2(-6.6,4.95) 3(-6.6,4.65) 4(-6.6,4.35) 5(-6.6,4.05) 6(-6.6,3.75) 7(-6.6,3.45) 8(-6.6,3.15) 9(-6.6,2.85) 10(-6.6,2.55) 11(-6.6,2.25) 12(-6.6,1.95) 13(-6.6,1.65) 14(-6.6,1.35) 15(-6.6,1.05) 16(-6.6,0.75) 17(-6.6,0.45) 18(-6.6,0.15) 19(-6.6,-0.15) 20(-6.6,-0.45) 21(-6.6,-0.75) 22(-6.6,-1.05) 23(-6.6,-1.35) 24(-6.6,-1.65) 25(-6.6,-1.95) 26(-6.6,-2.25) 27(-6.6,-2.55) 28(-6.6,-2.85) 29(-6.6,-3.15) 30(-6.6,-3.45) 31(-6.6,-3.75) 32(-6.6,-4.05) 33(-6.6,-4.35) 34(-6.6,-4.65) 35(-6.6,-4.95) 36(-6.6,-5.25) 73(6.6,-5.25) 74(6.6,-4.95) 75(6.6,-4.65) 76(6.6,-4.35) 77(6.6,-4.05) 78(6.6,-3.75) 79(6.6,-3.45) 80(6.6,-3.15) 81(6.6,-2.85) 82(6.6,-2.55) 83(6.6,-2.25) 84(6.6,-1.95) 85(6.6,-1.65) 86(6.6,-1.35) 87(6.6,-1.05) 88(6.6,-0.75) 89(6.6,-0.45) 90(6.6,-0.15) 91(6.6,0.15) 92(6.6,0.45) 93(6.6,0.75) 94(6.6,1.05) 95(6.6,1.35) 96(6.6,1.65) 97(6.6,1.95) 98(6.6,2.25) 99(6.6,2.55) 100(6.6,2.85) 101(6.6,3.15) 102(6.6,3.45) 103(6.6,3.75) 104(6.6,4.05) 105(6.6,4.35) 106(6.6,4.65) 107(6.6,4.95) 108(6.6,5.25)
  rect 0.17x1.6 smd: 37(-5.25,-6.6) 38(-4.95,-6.6) 39(-4.65,-6.6) 40(-4.35,-6.6) 41(-4.05,-6.6) 42(-3.75,-6.6) 43(-3.45,-6.6) 44(-3.15,-6.6) 45(-2.85,-6.6) 46(-2.55,-6.6) 47(-2.25,-6.6) 48(-1.95,-6.6) 49(-1.65,-6.6) 50(-1.35,-6.6) 51(-1.05,-6.6) 52(-0.75,-6.6) 53(-0.45,-6.6) 54(-0.15,-6.6) 55(0.15,-6.6) 56(0.45,-6.6) 57(0.75,-6.6) 58(1.05,-6.6) 59(1.35,-6.6) 60(1.65,-6.6) 61(1.95,-6.6) 62(2.25,-6.6) 63(2.55,-6.6) 64(2.85,-6.6) 65(3.15,-6.6) 66(3.45,-6.6) 67(3.75,-6.6) 68(4.05,-6.6) 69(4.35,-6.6) 70(4.65,-6.6) 71(4.95,-6.6) 72(5.25,-6.6) 109(5.25,6.6) 110(4.95,6.6) 111(4.65,6.6) 112(4.35,6.6) 113(4.05,6.6) 114(3.75,6.6) 115(3.45,6.6) 116(3.15,6.6) 117(2.85,6.6) 118(2.55,6.6) 119(2.25,6.6) 120(1.95,6.6) 121(1.65,6.6) 122(1.35,6.6) 123(1.05,6.6) 124(0.75,6.6) 125(0.45,6.6) 126(0.15,6.6) 127(-0.15,6.6) 128(-0.45,6.6) 129(-0.75,6.6) 130(-1.05,6.6) 131(-1.35,6.6) 132(-1.65,6.6) 133(-1.95,6.6) 134(-2.25,6.6) 135(-2.55,6.6) 136(-2.85,6.6) 137(-3.15,6.6) 138(-3.45,6.6) 139(-3.75,6.6) 140(-4.05,6.6) 141(-4.35,6.6) 142(-4.65,6.6) 143(-4.95,6.6) 144(-5.25,6.6)
Top Overlay:
  circle w0.25: c-7.96,5.25 r0.125
  circle w0.6: c-4.4,4.4 r0.3
  lines w0.2: -5.4,-5.4 5.4,-5.4 5.4,5.4 -5.4,5.4 -5.4,-5.4

## SQFP14X14-100 [mm] "QFP; 100 Leads; Body 14 x 14 mm; Pitch 0.5 mm"
height 2.2
pads (100):
  rect 1.6x0.3 smd: 1(-7.6,6) 2(-7.6,5.5) 3(-7.6,5) 4(-7.6,4.5) 5(-7.6,4) 6(-7.6,3.5) 7(-7.6,3) 8(-7.6,2.5) 9(-7.6,2) 10(-7.6,1.5) 11(-7.6,1) 12(-7.6,0.5) 13(-7.6,0) 14(-7.6,-0.5) 15(-7.6,-1) 16(-7.6,-1.5) 17(-7.6,-2) 18(-7.6,-2.5) 19(-7.6,-3) 20(-7.6,-3.5) 21(-7.6,-4) 22(-7.6,-4.5) 23(-7.6,-5) 24(-7.6,-5.5) 25(-7.6,-6) 51(7.6,-6) 52(7.6,-5.5) 53(7.6,-5) 54(7.6,-4.5) 55(7.6,-4) 56(7.6,-3.5) 57(7.6,-3) 58(7.6,-2.5) 59(7.6,-2) 60(7.6,-1.5) 61(7.6,-1) 62(7.6,-0.5) 63(7.6,0) 64(7.6,0.5) 65(7.6,1) 66(7.6,1.5) 67(7.6,2) 68(7.6,2.5) 69(7.6,3) 70(7.6,3.5) 71(7.6,4) 72(7.6,4.5) 73(7.6,5) 74(7.6,5.5) 75(7.6,6)
  rect 0.3x1.6 smd: 26(-6,-7.6) 27(-5.5,-7.6) 28(-5,-7.6) 29(-4.5,-7.6) 30(-4,-7.6) 31(-3.5,-7.6) 32(-3,-7.6) 33(-2.5,-7.6) 34(-2,-7.6) 35(-1.5,-7.6) 36(-1,-7.6) 37(-0.5,-7.6) 38(0,-7.6) 39(0.5,-7.6) 40(1,-7.6) 41(1.5,-7.6) 42(2,-7.6) 43(2.5,-7.6) 44(3,-7.6) 45(3.5,-7.6) 46(4,-7.6) 47(4.5,-7.6) 48(5,-7.6) 49(5.5,-7.6) 50(6,-7.6) 76(6,7.6) 77(5.5,7.6) 78(5,7.6) 79(4.5,7.6) 80(4,7.6) 81(3.5,7.6) 82(3,7.6) 83(2.5,7.6) 84(2,7.6) 85(1.5,7.6) 86(1,7.6) 87(0.5,7.6) 88(0,7.6) 89(-0.5,7.6) 90(-1,7.6) 91(-1.5,7.6) 92(-2,7.6) 93(-2.5,7.6) 94(-3,7.6) 95(-3.5,7.6) 96(-4,7.6) 97(-4.5,7.6) 98(-5,7.6) 99(-5.5,7.6) 100(-6,7.6)
Top Overlay:
  circle w0.25: c-7.6,6.7 r0.125
  lines w0.2: -6.4,-6.4 6.4,-6.4 6.4,6.4 -6.4,6.4 -6.4,-6.4

## SQFP14X14-108 [mm] "QFP; 108 Leads; Body 14 x 14 mm; Pitch 0.5 mm"
height 2.2
pads (108):
  rect 1.6x0.3 smd: 1(-7.6,6.5) 2(-7.6,6) 3(-7.6,5.5) 4(-7.6,5) 5(-7.6,4.5) 6(-7.6,4) 7(-7.6,3.5) 8(-7.6,3) 9(-7.6,2.5) 10(-7.6,2) 11(-7.6,1.5) 12(-7.6,1) 13(-7.6,0.5) 14(-7.6,0) 15(-7.6,-0.5) 16(-7.6,-1) 17(-7.6,-1.5) 18(-7.6,-2) 19(-7.6,-2.5) 20(-7.6,-3) 21(-7.6,-3.5) 22(-7.6,-4) 23(-7.6,-4.5) 24(-7.6,-5) 25(-7.6,-5.5) 26(-7.6,-6) 27(-7.6,-6.5) 55(7.6,-6.5) 56(7.6,-6) 57(7.6,-5.5) 58(7.6,-5) 59(7.6,-4.5) 60(7.6,-4) 61(7.6,-3.5) 62(7.6,-3) 63(7.6,-2.5) 64(7.6,-2) 65(7.6,-1.5) 66(7.6,-1) 67(7.6,-0.5) 68(7.6,0) 69(7.6,0.5) 70(7.6,1) 71(7.6,1.5) 72(7.6,2) 73(7.6,2.5) 74(7.6,3) 75(7.6,3.5) 76(7.6,4) 77(7.6,4.5) 78(7.6,5) 79(7.6,5.5) 80(7.6,6) 81(7.6,6.5)
  rect 0.3x1.6 smd: 28(-6.5,-7.6) 29(-6,-7.6) 30(-5.5,-7.6) 31(-5,-7.6) 32(-4.5,-7.6) 33(-4,-7.6) 34(-3.5,-7.6) 35(-3,-7.6) 36(-2.5,-7.6) 37(-2,-7.6) 38(-1.5,-7.6) 39(-1,-7.6) 40(-0.5,-7.6) 41(0,-7.6) 42(0.5,-7.6) 43(1,-7.6) 44(1.5,-7.6) 45(2,-7.6) 46(2.5,-7.6) 47(3,-7.6) 48(3.5,-7.6) 49(4,-7.6) 50(4.5,-7.6) 51(5,-7.6) 52(5.5,-7.6) 53(6,-7.6) 54(6.5,-7.6) 82(6.5,7.6) 83(6,7.6) 84(5.5,7.6) 85(5,7.6) 86(4.5,7.6) 87(4,7.6) 88(3.5,7.6) 89(3,7.6) 90(2.5,7.6) 91(2,7.6) 92(1.5,7.6) 93(1,7.6) 94(0.5,7.6) 95(0,7.6) 96(-0.5,7.6) 97(-1,7.6) 98(-1.5,7.6) 99(-2,7.6) 100(-2.5,7.6) 101(-3,7.6) 102(-3.5,7.6) 103(-4,7.6) 104(-4.5,7.6) 105(-5,7.6) 106(-5.5,7.6) 107(-6,7.6) 108(-6.5,7.6)
Top Overlay:
  circle w0.25: c-8.96,6.5 r0.125
  lines w0.2: -6.4,-6.4 -6.4,6.4 6.4,6.4 6.4,-6.4 -6.4,-6.4